# EAGLE library part MAX3001E (library paparazzi3)
8 channels low voltage level translator
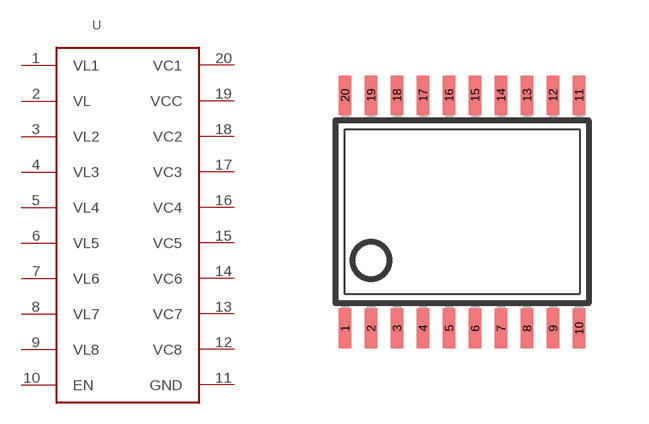
[diagram p9: symbol with the pads of TSSOP20; footprint TSSOP20]

Designator prefix -

## MAX3001E  [TSSOP20]
1  VL1
2  VL
3  VL2
4  VL3
5  VL4
6  VL5
7  VL6
8  VL7
9  VL8
10  EN
11  GND
12  VC8
13  VC7
14  VC6
15  VC5
16  VC4
17  VC3
18  VC2
19  VCC
20  VC1

## Footprint TSSOP20 (pad centres in mm)
Thin Shrink Small Outline Plastic 20 MAX3223-MAX3243.pdf
smd 0.305 x 0.991: 1 -2.925,-2.918; 2 -2.275,-2.918; 3 -1.625,-2.918; 4 -0.975,-2.918; 5 -0.325,-2.918; 6 0.325,-2.918; 7 0.975,-2.918; 8 1.625,-2.918; 9 2.275,-2.918; 10 2.925,-2.918; 11 2.925,2.918; 12 2.275,2.918; 13 1.625,2.918; 14 0.975,2.918; 15 0.325,2.918; 16 -0.325,2.918; 17 -0.975,2.918; 18 -1.625,2.918; 19 -2.275,2.918; 20 -2.925,2.918